# EAGLE library part LTC1454* (library linear-technology-2)
Dual 12-Bit Rail-to-Rail Micropower DACs
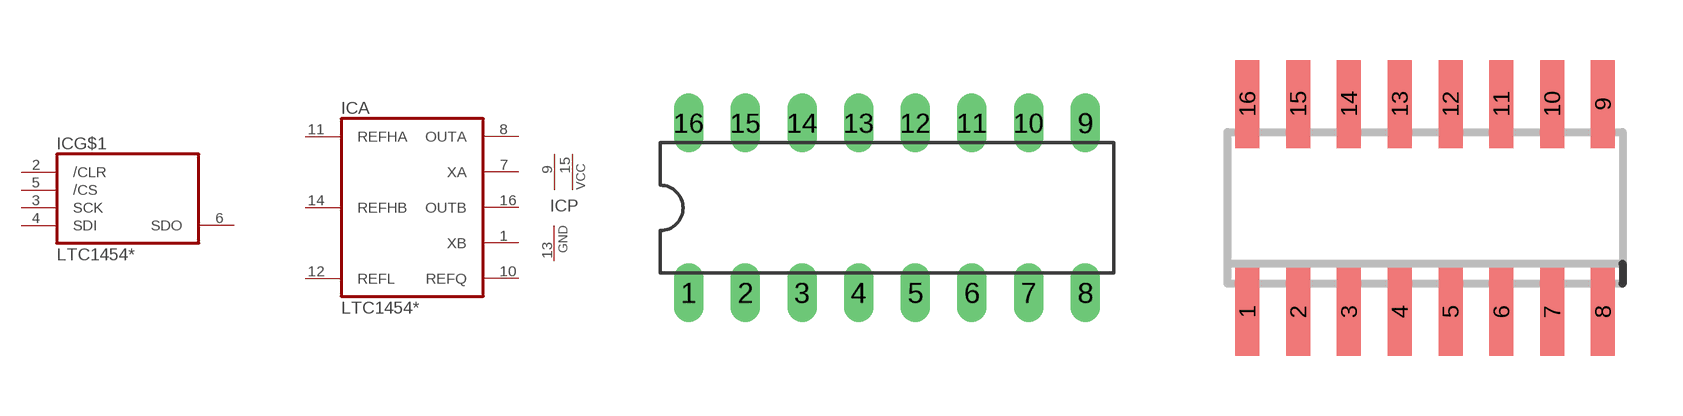
[diagram p33: symbol with the pads of DIL16; footprints DIL16, SO16]

Designator prefix IC; gates P=PWRN-CC-G A=LTC1454A G$1=LTC1454D

## LTC1454CN, LTC1454IN, LTC1454LCN, LTC1454LIN  [DIL16]
1  A:XB  pas
2  G$1:/CLR  in
3  G$1:SCK  in
4  G$1:SDI  in
5  G$1:/CS  in
6  G$1:SDO  hiz
7  A:XA  pas
8  A:OUTA  out
9  P:VCC  pwr
10  A:REFQ  pas
11  A:REFHA  in
12  A:REFL  pas
13  P:GND  pwr
14  A:REFHB  in
15  P:VCC  pwr
16  A:OUTB  out

## LTC1454CS, LTC1454IS, LTC1454LCS, LTC1454LIS  [SO16]
Pads as for DIL16

## Footprint DIL16 (pad centres in mm)
drill 0.813 long: 1 -8.89,-3.81; 2 -6.35,-3.81; 3 -3.81,-3.81; 4 -1.27,-3.81; 5 1.27,-3.81; 6 3.81,-3.81; 7 6.35,-3.81; 8 8.89,-3.81; 9 8.89,3.81; 10 6.35,3.81; 11 3.81,3.81; 12 1.27,3.81; 13 -1.27,3.81; 14 -3.81,3.81; 15 -6.35,3.81; 16 -8.89,3.81

## Footprint SO16 (pad centres in mm)
smd 0.6 x 2.2: 1 -4.445,-2.6; 2 -3.175,-2.6; 3 -1.905,-2.6; 4 -0.635,-2.6; 5 0.635,-2.6; 6 1.905,-2.6; 7 3.175,-2.6; 8 4.445,-2.6; 9 4.445,2.6; 10 3.175,2.6; 11 1.905,2.6; 12 0.635,2.6; 13 -0.635,2.6; 14 -1.905,2.6; 15 -3.175,2.6; 16 -4.445,2.6